# EAGLE library part SN74AVC1T45 (library Parts)
1-Bit 電圧レベル変換器 伝搬遅延時間: 5.6 ns 供給電圧 - 最大: 3.6 V 供給電圧 - 最小: 1.2 V 動作温度範囲: - 40 C to + 85 C 出力タイプ: 3-State
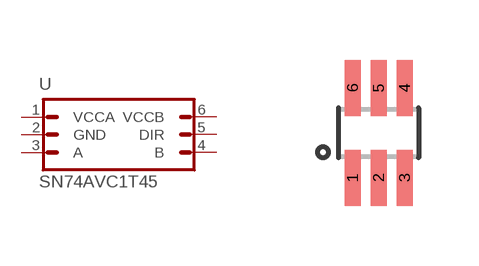
[diagram p22: symbol with the pads of SC-70-6_DEV; footprint SC-70-6_DEV]

Designator prefix U

## SN74AVC1T45DCK_  [SC-70-6_DEV]
1  VCCA  pas
2  GND  pas
3  A
4  B
5  DIR
6  VCCB  pas

## Footprint SC-70-6_DEV (pad centres in mm)
SC-70-6 手はんだパターン
smd 0.4 x 1.4: 1 -0.65,-1.125; 2 0,-1.125; 3 0.65,-1.125; 4 0.65,1.125; 5 0,1.125; 6 -0.65,1.125